# EAGLE library part MAX10* (library maxim)
2.7V to 5.5V, Low-Power, 4-/12-Channel 2-Wire Serial 8-Bit ADCs Source: http://datasheets.maxim-ic.com/en/ds/MAX1036-MAX1039M.pdf
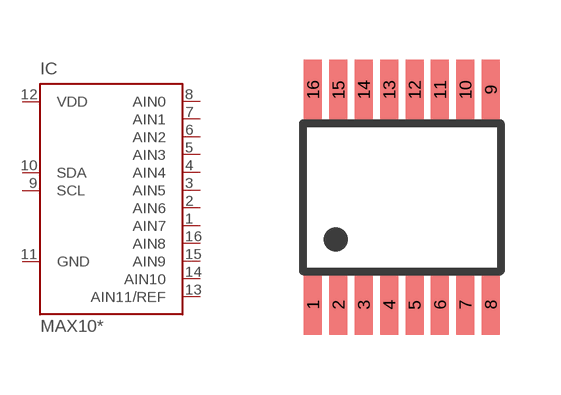
[diagram p247: symbol with the pads of QSOP16; footprint QSOP16]

Designator prefix IC

## MAX1038 (MF: MAXIM; MPN: MAX1038AEEE+; OC_FARNELL: 1422279; OC_NEWARK: 23K5589), MAX1039 (MF: MAXIM; MPN: MAX1039AEEE+; OC_FARNELL: 1379845; OC_NEWARK: 23K5590)  [QSOP16]
1  AIN7  in
2  AIN6  in
3  AIN5  in
4  AIN4  in
5  AIN3  in
6  AIN2  in
7  AIN1  in
8  AIN0  in
9  SCL  in
10  SDA  in
11  GND  pwr
12  VDD  pwr
13  AIN11/REF  in
14  AIN10  in
15  AIN9  in
16  AIN8  in

## Footprint QSOP16 (pad centres in mm)
Small Outline Package
smd 0.45 x 1.5: 1 -2.223,-2.69; 2 -1.587,-2.69; 3 -0.953,-2.69; 4 -0.318,-2.69; 5 0.318,-2.69; 6 0.953,-2.69; 7 1.587,-2.69; 8 2.223,-2.69; 9 2.223,2.69; 10 1.587,2.69; 11 0.953,2.69; 12 0.318,2.69; 13 -0.318,2.69; 14 -0.953,2.69; 15 -1.587,2.69; 16 -2.223,2.69